# Altium footprint library Components - fuse.PcbLib: 3 footprints
Each footprint in its own frame and in the unit in brackets; x right, y up, seen from the top. Pads: shape width x height; smd on the part's side, far side on the other; paste and mask are expansions set on the pad; w line width, h text height; cw(c..) or ccw(c..) is an arc to the next point about the centre after c.
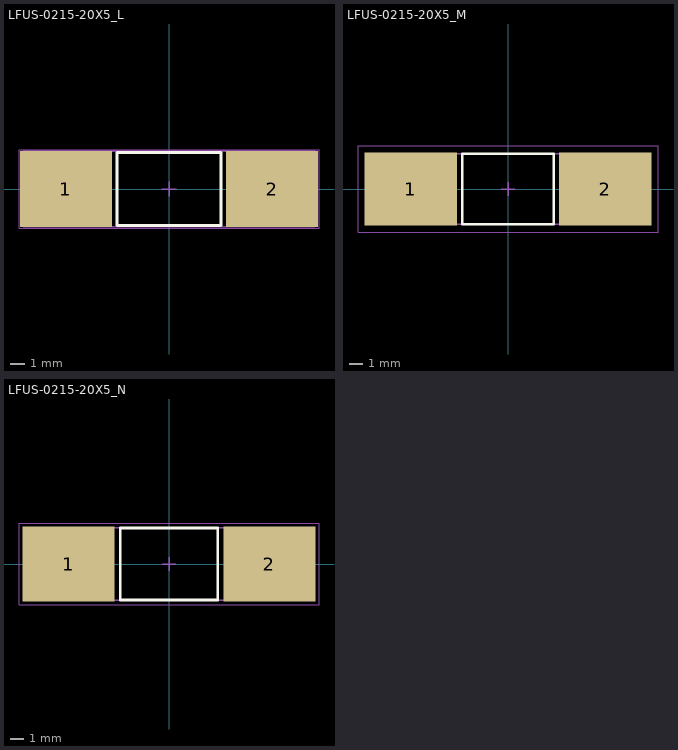
[diagram p0: the footprints below, top view; thin cyan lines are the x and y axes]

## LFUS-0215-20X5_L [mm] "MELF Resistor, 2-Leads, Body 20.5x5.3mm, IPC High Density"
height 5.3
pads (2):
  rect 6.45x5.35 smd: 1(-7.25,0) 2(7.25,0)
Top Overlay:
  lines w0.2: -3.65,-2.575 -3.65,2.575 3.65,2.575 3.65,-2.575 -3.65,-2.575
Mechanical 13:
  lines w0.1: -10.25,-2.65 10.25,-2.65 10.25,2.65 -10.25,2.65 -10.25,-2.65
Mechanical 15:
  lines w0.05: -10.55,-2.775 10.55,-2.775 10.55,2.775 -10.55,2.775 -10.55,-2.775
  lines w0.1: -0.5,0 0.5,0 ; 0,-0.5 0,0.5
3D body "RESMELF20051L.step": height 5.15, standoff 0, extent -10,-2.575 10,2.575

## LFUS-0215-20X5_M [mm] "MELF Resistor, 2-Leads, Body 20.5x5.3mm, IPC Low Density"
height 5.3
pads (2):
  rect 7x5.55 smd: 1(-7.35,0) 2(7.35,0)
Top Overlay:
  lines w0.2: -3.45,-2.675 3.45,-2.675 3.45,2.675 -3.45,2.675 -3.45,-2.675
Mechanical 13:
  lines w0.1: -10.25,-2.65 -10.25,2.65 10.25,2.65 10.25,-2.65 -10.25,-2.65
Mechanical 15:
  lines w0.05: -11.35,-3.275 -11.35,3.275 11.35,3.275 11.35,-3.275 -11.35,-3.275
  lines w0.1: -0.5,0 0.5,0 ; 0,-0.5 0,0.5
3D body "RESMELF20051M.step": height 5.15, standoff 0, extent -10,-2.575 10,2.575

## LFUS-0215-20X5_N [mm] "MELF Resistor, 2-Leads, Body 20.5x5.3mm, IPC Medium Density"
height 5.3
pads (2):
  rect 6.7x5.45 smd: 1(-7.3,0) 2(7.3,0)
Top Overlay:
  lines w0.2: -3.55,-2.625 3.55,-2.625 3.55,2.625 -3.55,2.625 -3.55,-2.625
Mechanical 13:
  lines w0.1: -10.25,-2.65 -10.25,2.65 10.25,2.65 10.25,-2.65 -10.25,-2.65
Mechanical 15:
  lines w0.05: -10.9,-2.975 -10.9,2.975 10.9,2.975 10.9,-2.975 -10.9,-2.975
  lines w0.1: -0.5,0 0.5,0 ; 0,-0.5 0,0.5
3D body "RESMELF20051N.step": height 5.15, standoff 0, extent -10,-2.575 10,2.575